# Altium footprint library Cap1500.PcbLib: 1 footprints
Each footprint in its own frame and in the unit in brackets; x right, y up, seen from the top. Pads: shape width x height; smd on the part's side, far side on the other; paste and mask are expansions set on the pad; w line width, h text height; cw(c..) or ccw(c..) is an arc to the next point about the centre after c.
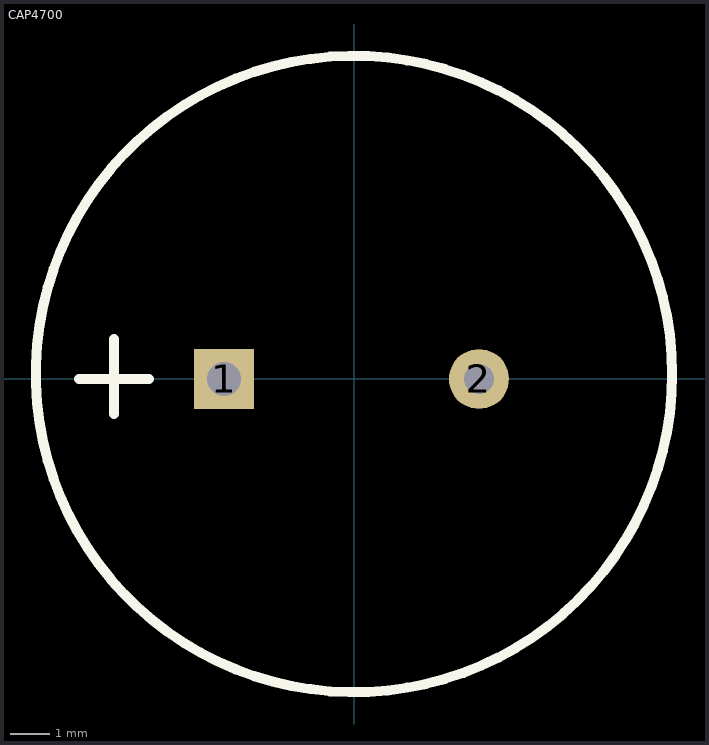
[diagram p0: the footprint, top view; thin cyan lines are the x and y axes]

## CAP4700 [mil]
pads (2):
  rect 60x60 hole 34: 1(-130,0)
  round 60 hole 30: 2(125,0)
Top Overlay:
  circle w10: c0,5 r318.2
  lines w10: -275,0 -205,0 ; -240,-35 -240,40